# Altium footprint library SparkFun-Coils.PCBLIB: 11 footprints
Each footprint in its own frame and in the unit in brackets; x right, y up, seen from the top. Pads: shape width x height; smd on the part's side, far side on the other; paste and mask are expansions set on the pad; w line width, h text height; cw(c..) or ccw(c..) is an arc to the next point about the centre after c.
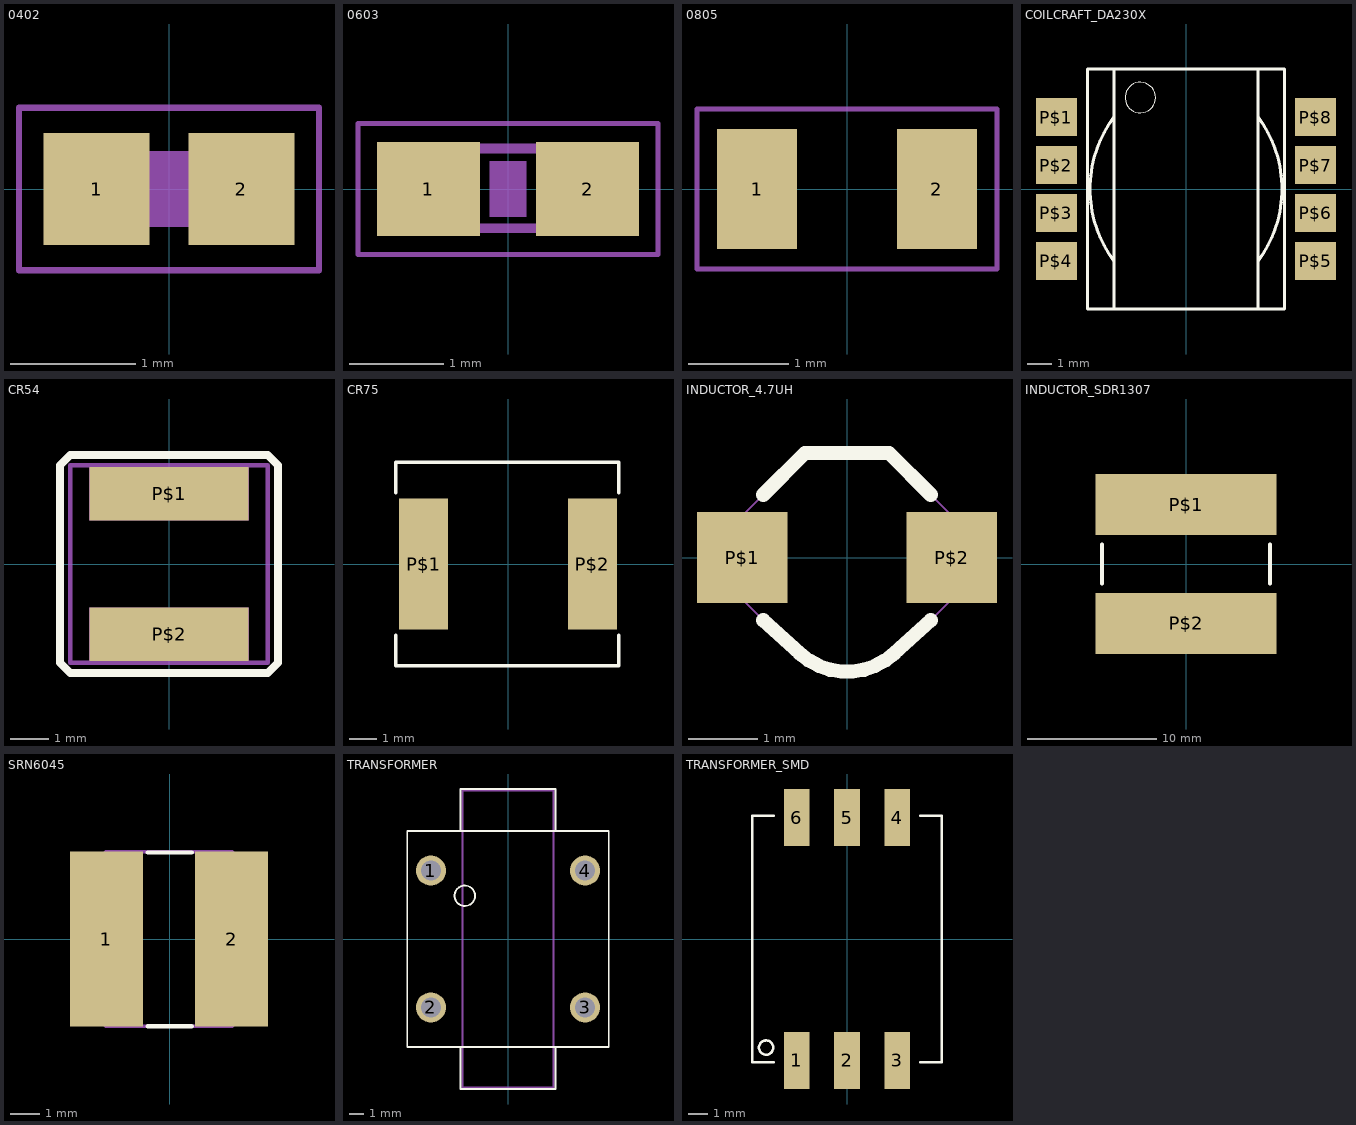
[diagram p0: the footprints below, top view; thin cyan lines are the x and y axes]

## 0402 [mm]
pads (2):
  rect 0.85x0.9 smd: 1(-0.58,0) 2(0.58,0)
Mechanical 6:
  rectangle: -0.2,-0.3 0.2,0.3
Mechanical 16:
  rectangle: -0.554,-0.305 -0.254,0.305
  rectangle: 0.259,-0.305 0.559,0.305
  lines w0.152: -0.271,-0.229 0.271,-0.229 ; -0.271,0.229 0.271,0.229
Mechanical 27:
  lines w0.051: -1.2,-0.65 1.2,-0.65 1.2,0.65 -1.2,0.65 -1.2,-0.65

## 0603 [mm]
pads (2):
  rect 1.1x1 smd: 1(-0.85,0) 2(0.85,0)
Mechanical 6:
  rectangle: -0.2,-0.3 0.2,0.3
Mechanical 16:
  rectangle: -0.838,-0.47 -0.338,0.48
  rectangle: 0.33,-0.47 0.83,0.48
  lines w0.102: -0.356,-0.419 0.356,-0.419 ; -0.356,0.432 0.356,0.432
Mechanical 27:
  lines w0.051: -1.6,-0.7 1.6,-0.7 1.6,0.7 -1.6,0.7 -1.6,-0.7

## 0805 [mil]
pads (2):
  rect 31.5x47.24 smd: 1(-35.43,0) 2(35.43,0)
Mechanical 27:
  lines w2: -59.06,-31.5 59.06,-31.5 59.06,31.5 -59.06,31.5 -59.06,-31.5

## COILCRAFT_DA230X [mm]
pads (8):
  rect 1.7x1.6 smd: P$1(-5.4,3) P$2(-5.4,1) P$3(-5.4,-1) P$4(-5.4,-3) P$5(5.4,-3) P$6(5.4,-1) P$7(5.4,1) P$8(5.4,3)
Top Overlay:
  circle w0: c-1.905,3.81 r0.635
  lines w0.127: -3,-5 -4.1,-5 -4.1,5 -3,5 ; -3,-5 3,-5 ; -3,-5 -3,-3 ; -3,-3 -3,3 ; -3,-3 cw(c1,0) -3,3 ; -3,3 -3,5 ; -3,5 3,5 ; 3,-5 4.1,-5 4.1,5 3,5 ; 3,-5 3,-3 ; 3,-3 3,3 ; 3,-3 ccw(c-1,0) 3,3 ; 3,3 3,5

## CR54 [mm]
pads (2):
  rect 4.2x1.4 smd: P$1(0,1.85) P$2(0,-1.85)
Top Overlay:
  lines w0.203: -2.87,-2.6 -2.87,2.6 -2.6,2.87 2.6,2.87 2.87,2.6 2.87,-2.6 2.6,-2.87 -2.6,-2.87 -2.87,-2.6
Mechanical 16:
  rectangle: -2.1,1.15 2.1,2.55
  rectangle: -2.1,-2.55 2.1,-1.15
  lines w0.127: -2.6,-2.6 -2.6,2.6 2.6,2.6 2.6,-2.6 -2.6,-2.6

## CR75 [mm]
pads (2):
  rect 1.75x4.7 smd: P$1(-3.025,0) P$2(3.025,0)
Top Overlay:
  lines w0.127: -4.025,-2.55 -4.025,-3.65 3.975,-3.65 3.975,-2.55 ; -4.025,2.55 -4.025,3.65 3.975,3.65 3.975,2.55

## INDUCTOR_4.7UH [mm]
pads (2):
  rect 1.3x1.3 smd: P$1(-1.5,0) P$2(1.5,0)
Top Overlay:
  lines w0.203: -1.2,-0.9 -0.678,-1.374 ccw(c0,-0.639) 0.678,-1.374 1.2,-0.9 ; -1.2,0.9 -0.6,1.5 0.6,1.5 1.2,0.9
Mechanical 16:
  lines w0.03: -1.5,-0.6 -0.707,-1.393 ccw(c0,-0.686) 0.707,-1.393 1.5,-0.6 1.5,0.6 0.6,1.5 -0.6,1.5 -1.5,0.6 -1.5,-0.6

## INDUCTOR_SDR1307 [mm]
pads (2):
  rect 14x4.75 smd: P$1(0,4.6) P$2(0,-4.6)
Top Overlay:
  lines w0.305: -6.5,-1.5 -6.5,1.5 ; 6.5,-1.5 6.5,1.5

## SRN6045 [mm]
pads (2):
  rect 2.5x6 smd: 1(-2.175,0) 2(2.125,0)
Top Overlay:
  lines w0.152: -0.762,-3 0.762,-3 ; -0.762,2.969 0.762,2.969
Mechanical 16:
  lines w0.127: -3.175,-2 -2.175,-3 2.125,-3 3.125,-2 3.125,2 2.125,3 -2.175,3 -3.175,2 -3.175,-2

## TRANSFORMER [mm]
pads (4):
  round 2.1 hole 1.4: 1(-5.35,4.75) 2(-5.35,-4.75) 3(5.35,-4.75) 4(5.35,4.75)
Top Overlay:
  circle w0.127: c-3,3 r0.71
  lines w0.127: -3.302,-7.518 -3.302,-10.414 3.302,-10.414 3.302,-7.518 ; -3.302,7.544 -3.302,10.414 3.302,10.414 3.302,7.518 ; -7,-7.5 -7,7.5 7,7.5 7,-7.5 -7,-7.5
Mechanical 16:
  lines w0.127: -3.15,-10.3 -3.15,10.3 3.15,10.3 3.15,-10.3 -3.15,-10.3

## TRANSFORMER_SMD [mm]
pads (6):
  rect 1.3x2.9 smd: 1(-2.54,-6.15) 2(0,-6.15) 3(2.54,-6.15) 4(2.54,6.15) 5(0,6.15) 6(-2.54,6.15)
Top Overlay:
  circle w0.127: c-4.1,-5.5 r0.36
  lines w0.127: -3.7,-6.25 -4.8,-6.25 -4.8,6.25 -3.7,6.25 ; 3.7,-6.25 4.8,-6.25 4.8,6.25 3.7,6.25